# Altium schematic symbol library LinearVoltageRegulator.SchLib: 1 symbol
Pins are listed as number, name and electrical type; pins without a type are passive.

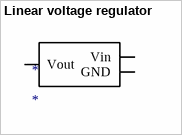
[diagram p0: symbol Linear voltage regulator]

## Linear voltage regulator
designator *
pins: 1 GND, 2 Vout, 3 Vin